# Altium schematic symbol library MT25QL256ABA.SchLib: 1 symbol
Pins are listed as number, name and electrical type; pins without a type are passive.

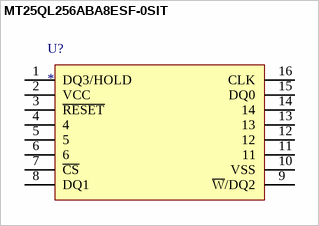
[diagram p0: symbol MT25QL256ABA8ESF-0SIT]

## MT25QL256ABA8ESF-0SIT
designator U?
256 Mb Flash Micron
footprint SOP127P1030X265-16N (SOP, 16-Leads, Body 10.30x7.50mm, Pitch 1.27mm, IPC Medium Density)
pins: 1 DQ3/HOLD, 2 VCC, 3 ~{RESET}, 4, 5, 6, 7 ~{CS}, 8 DQ1, 9 ~{W}/DQ2, 10 VSS, 11, 12, 13, 14, 15 DQ0, 16 CLK